# EAGLE library part HEF4023BP (library NXP_By_element14_Batch_1)
Triple 3-input NAND gate
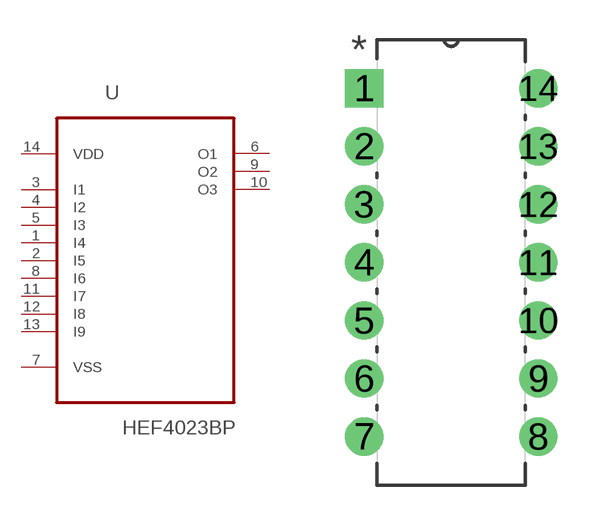
[diagram p247: symbol with the pads of DIP254P762X420-14; footprint DIP254P762X420-14]

Designator prefix U

## HEF4023BP (MPN: HEF4023BP; OC_FARNELL: 384847; OC_NEWARK: 10WX5412; PACKAGE: DIP-14; SUPPLIER: NXP)  [DIP254P762X420-14]
1  I4  in
2  I5  in
3  I1  in
4  I2  in
5  I3  in
6  O1  out
7  VSS  pas
8  I6  in
9  O2  out
10  O3  out
11  I7  in
12  I8  in
13  I9  in
14  VDD  pwr

## Footprint DIP254P762X420-14 (pad centres in mm)
drill 1.118 square: 1 -7.62,15.24
drill 1.118: 2 -7.62,12.7; 3 -7.62,10.16; 4 -7.62,7.62; 5 -7.62,5.08; 6 -7.62,2.54; 7 -7.62,0; 8 0,0; 9 0,2.54; 10 0,5.08; 11 0,7.62; 12 0,10.16; 13 0,12.7; 14 0,15.24